# EAGLE library part TLC555CDR (library ece510_library)
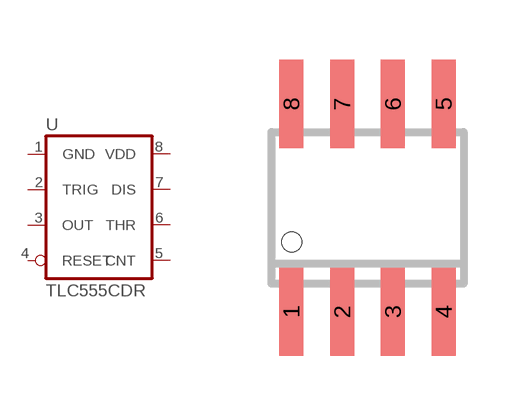
[diagram p0: symbol with the pads of TLC555CRD; footprint TLC555CRD]

Designator prefix -

## TLC555CDR  [TLC555CRD]
1  GND  in
2  TRIG  pwr
3  OUT  in
4  RESET  in
5  CNT  pwr
6  THR  in
7  DIS  in
8  VDD  out

## Footprint TLC555CRD (pad centres in mm)
smd 0.6 x 2.2: 1 -1.555,-2.95; 2 -0.285,-2.95; 3 0.985,-2.95; 4 2.255,-2.95; 5 2.255,2.25; 6 0.985,2.25; 7 -0.285,2.25; 8 -1.555,2.25